# EAGLE library part INA300 (library misc)
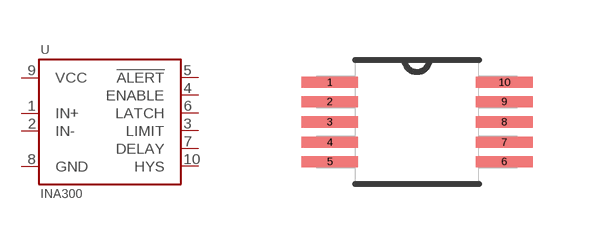
[diagram p0: symbol with the pads of 10-VSSOP; footprint 10-VSSOP]

Designator prefix U

## INA300  [10-VSSOP]
1  IN+
2  IN-
3  LIMIT
4  ENABLE
5  !ALERT!
6  LATCH
7  DELAY
8  GND
9  VCC
10  HYS

## Footprint 10-VSSOP (pad centres in mm)
smd 1.422 x 0.279: 1 -2.184,0.991; 2 -2.184,0.508; 3 -2.184,0; 4 -2.184,-0.508; 5 -2.184,-0.991; 6 2.184,-0.991; 7 2.184,-0.508; 8 2.184,0; 9 2.184,0.508; 10 2.184,0.991